# EAGLE library part CN3083 (library IC)
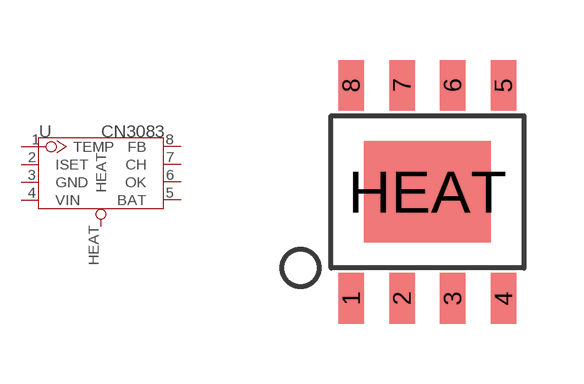
[diagram p40: symbol with the pads of SOP8-W/-HEAT; footprint SOP8-W/-HEAT]

Designator prefix U

## CN3083  [SOP8-W/-HEAT]
1  TEMP
2  ISET
3  GND
4  VIN
5  BAT
6  OK
7  CH
8  FB
HEAT  HEAT

## Footprint SOP8-W/-HEAT (pad centres in mm)
smd 0.635 x 1.27: 1 -1.905,-2.667; 2 -0.635,-2.667; 3 0.635,-2.667; 4 1.905,-2.667; 5 1.905,2.667; 6 0.635,2.667; 7 -0.635,2.667; 8 -1.905,2.667
smd 3.175 x 2.54: HEAT 0,0